# Altium schematic symbol library component_lib.SchLib: 11 symbols
Pins are listed as number, name and electrical type; pins without a type are passive.

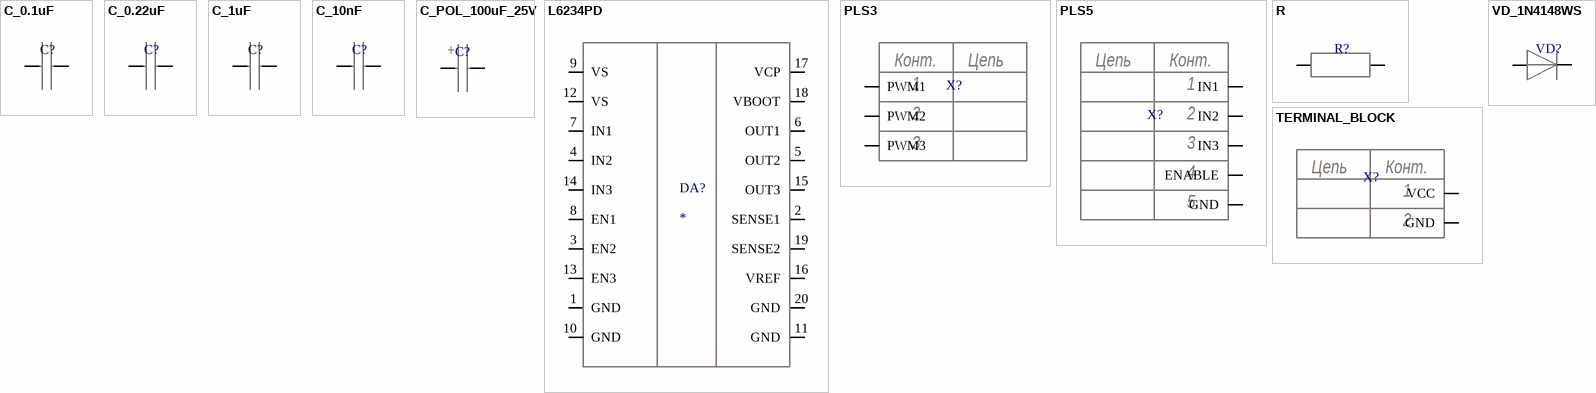
[diagram p0: symbols C_0.1uF to VD_1N4148WS]

## C_0.1uF
designator C?  (value not drawn)
footprint CAP_1206 (Chip Capacitor, 2-Leads, Body 3,20x1,60mm, IPC Medium Density)
pins: 1, 2

## C_0.22uF
designator C?  (value not drawn)
footprint CAP_1206 (Chip Capacitor, 2-Leads, Body 3,20x1,60mm, IPC Medium Density)
pins: 1, 2

## C_1uF
designator C?  (value not drawn)
footprint CAP_1206 (Chip Capacitor, 2-Leads, Body 3,20x1,60mm, IPC Medium Density)
pins: 1, 2

## C_10nF
designator C?  (value not drawn)
footprint CAP_1206 (Chip Capacitor, 2-Leads, Body 3,20x1,60mm, IPC Medium Density)
pins: 1, 2

## C_POL_100uF_25V
designator C?  (value not drawn)
footprint CAP_EL_100uF_25V (Aluminum Electrolytic Capacitor, Body 7,50x6,60x8,00mm, IPC Medium Density)
pins: 1, 2
text: +

## L6234PD
designator DA?
footprint POWERSO-20 (POWERSO, 20-Leads, Body 15,90x11,00mm, Pitch 1,27mm, IPC Medium Density)
pins: 1 GND, 2 SENSE1, 3 EN2, 4 IN2, 5 OUT2, 6 OUT1, 7 IN1, 8 EN1, 9 VS, 10 GND, 11 GND, 12 VS, 13 EN3, 14 IN3, 15 OUT3, 16 VREF, 17 VCP, 18 VBOOT, 19 SENSE2, 20 GND

## PLS3
designator X?  (value not drawn)
footprint PLS3
pins: 1 PWM1, 2 PWM2, 3 PWM3
text: Конт.; Цепь

## PLS5
designator X?  (value not drawn)
footprint PLS5
pins: 1 IN1, 2 IN2, 3 IN3, 4 ENABLE, 5 GND
text: Цепь; Конт.

## R
designator R?  (value not drawn)
pins: 1, 2

## TERMINAL_BLOCK
designator X?  (value not drawn)
footprint Terminal_Block_2x
pins: 1 VCC, 2 GND
text: Цепь; Конт.

## VD_1N4148WS
designator VD?  (value not drawn)
footprint SOD323 (SOD323, 2-Leads, Body 1,30x2,50mm, IPC Medium Density)
pins: 1, 2